# Altium integrated library 1uF.IntLib: 1 symbol
Pins are listed as number, name and electrical type; pins without a type are passive.

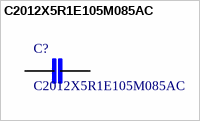
[diagram p0: symbol C2012X5R1E105M085AC]

## C2012X5R1E105M085AC
designator C?
CAP CER 1UF 25V X5R 0805; MF: TDK; Availability: Good; Package: 0805 TDK; Price: 0.06 USD; MP: C2012X5R1E105M085AC; Value: *
footprint INDC2012X87N
pins: 1, 2